# Altium footprint library ATMEGA328P.PcbLib: 1 footprints
Each footprint in its own frame and in the unit in brackets; x right, y up, seen from the top. Pads: shape width x height; smd on the part's side, far side on the other; paste and mask are expansions set on the pad; w line width, h text height; cw(c..) or ccw(c..) is an arc to the next point about the centre after c.
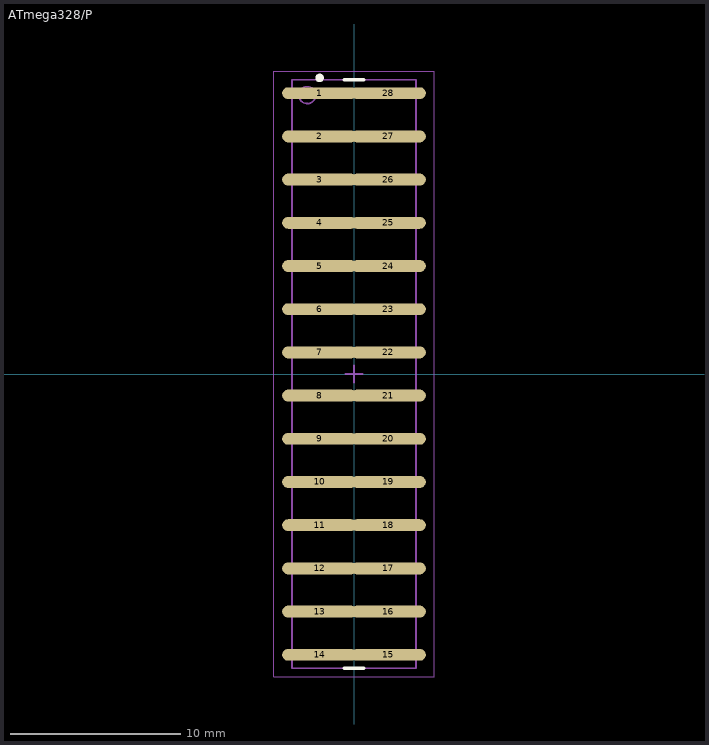
[diagram p0: the footprint, top view; thin cyan lines are the x and y axes]

## ATmega328/P [mm] "SOJ, 28-Leads, Body 34,60x7,94mm, Pitch 2,54mm, IPC Low Density"
height 4.58
pads (28):
  oval 4.4x0.7 smd: 1(-2.025,16.51) 2(-2.025,13.97) 3(-2.025,11.43) 4(-2.025,8.89) 5(-2.025,6.35) 6(-2.025,3.81) 7(-2.025,1.27) 8(-2.025,-1.27) 9(-2.025,-3.81) 10(-2.025,-6.35) 11(-2.025,-8.89) 12(-2.025,-11.43) 13(-2.025,-13.97) 14(-2.025,-16.51) 15(2.025,-16.51) 16(2.025,-13.97) 17(2.025,-11.43) 18(2.025,-8.89) 19(2.025,-6.35) 20(2.025,-3.81) 21(2.025,-1.27) 22(2.025,1.27) 23(2.025,3.81) 24(2.025,6.35) 25(2.025,8.89) 26(2.025,11.43) 27(2.025,13.97) 28(2.025,16.51)
Top Overlay:
  circle w0.25: c-2.025,17.41 r0.125
  lines w0.2: -0.575,-17.3 0.575,-17.3 ; -0.575,17.3 0.575,17.3
Mechanical 13:
  circle w0.1: c-2.75,16.4 r0.5
  lines w0.1: -3.65,-17.3 3.65,-17.3 3.65,17.3 -3.65,17.3 -3.65,-17.3
Mechanical 15:
  lines w0.05: -4.725,-17.8 4.725,-17.8 4.725,17.8 -4.725,17.8 -4.725,-17.8
  lines w0.1: -0.5,0 0.5,0 ; 0,-0.5 0,0.5
3D body: height 4.58, standoff 0.51, extent -3.65,-17.3 3.65,17.3